# Altium footprint library SparkFun-LED.PCBLIB: 30 footprints (part 2 of 2)
Each footprint in its own frame and in the unit in brackets; x right, y up, seen from the top. Pads: shape width x height; smd on the part's side, far side on the other; paste and mask are expansions set on the pad; w line width, h text height; cw(c..) or ccw(c..) is an arc to the next point about the centre after c.
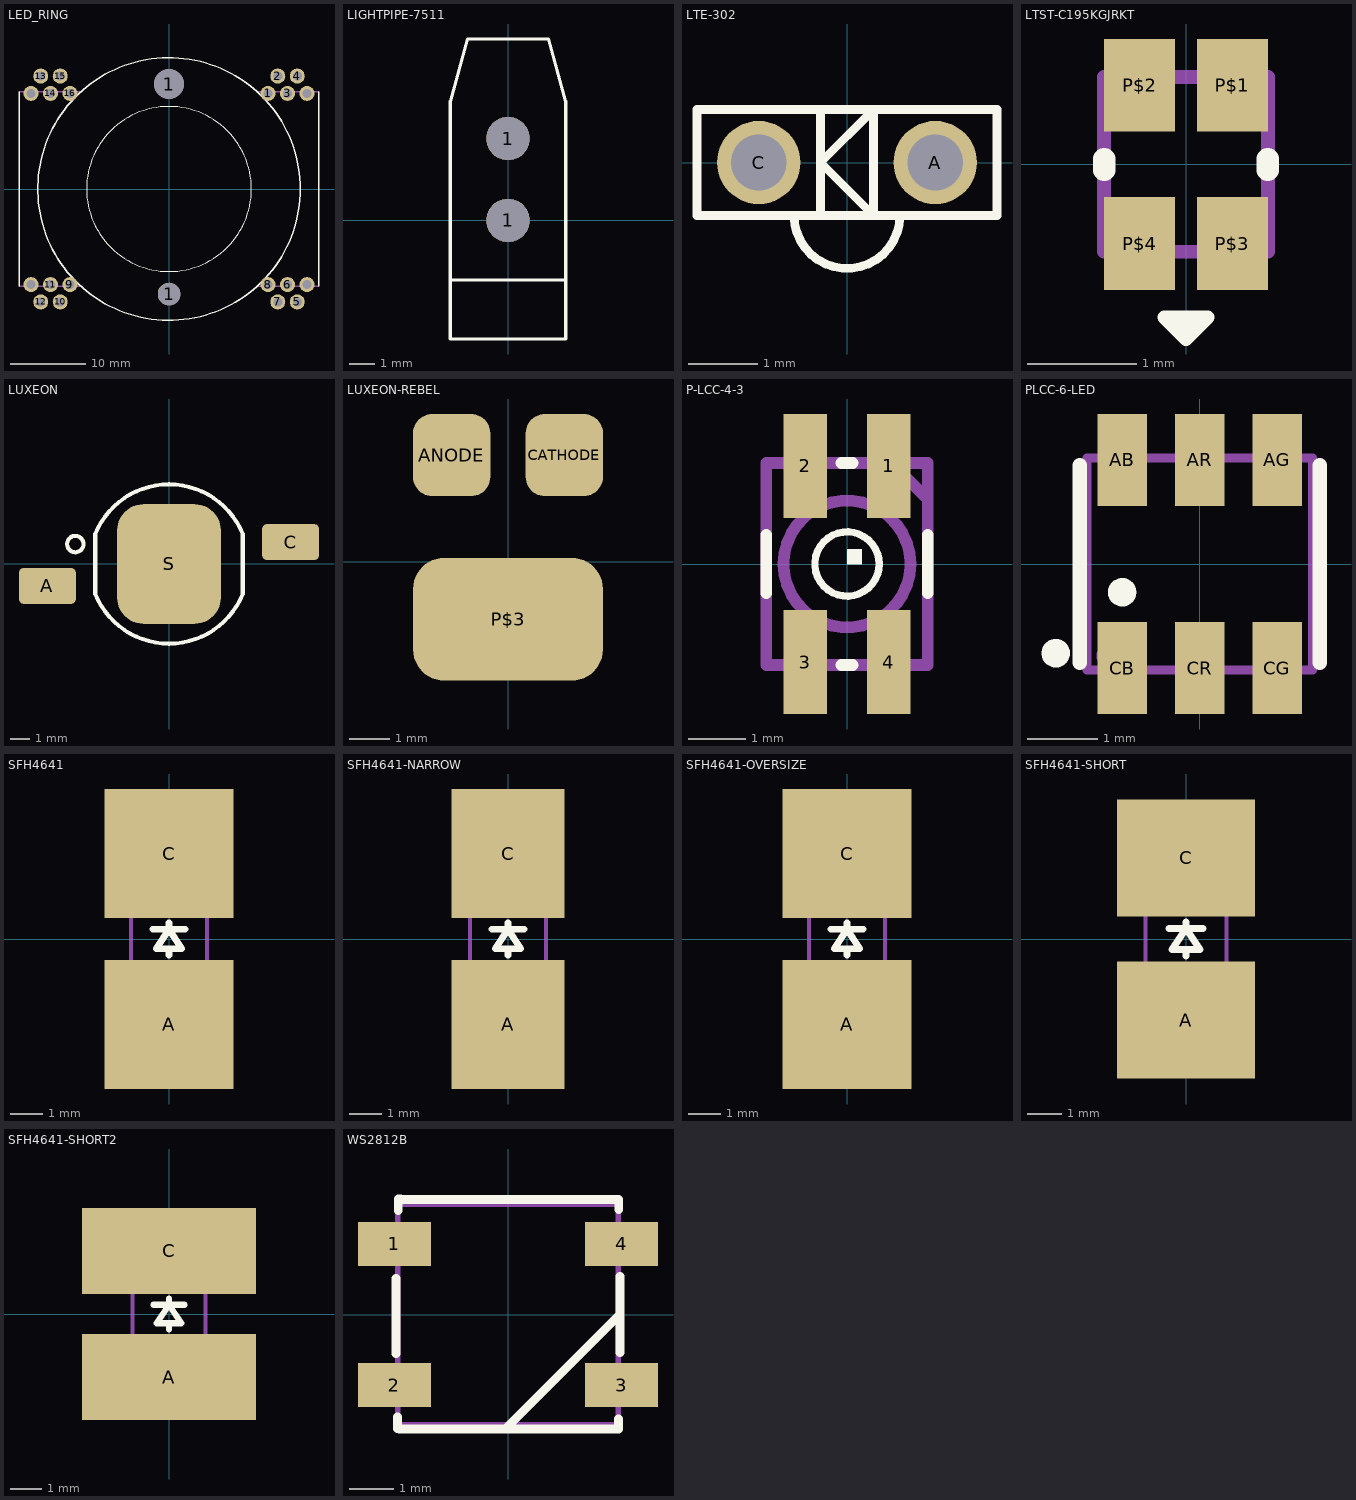
[diagram p1: the footprints below, top view; thin cyan lines are the x and y axes]

## LED_RING [mm]
pads (22):
  round 3 hole 3: 1(0,-14)
  round 4 hole 4: 1(0,14)
  round 2 hole 1.2: 1(13.2,12.75) 2(14.5,15.05) 3(15.8,12.75) 4(17.1,15.05) 5(17.1,-15.05) 6(15.8,-12.75) 7(14.5,-15.05) 8(13.2,-12.75) 9(-13.2,-12.75) 10(-14.5,-15.05) 11(-15.8,-12.75) 12(-17.1,-15.05) 13(-17.1,15.05) 14(-15.8,12.75) 15(-14.5,15.05) 16(-13.2,12.75) COM0(18.4,12.75) COM1(18.4,-12.75) COM2(-18.4,-12.75) COM3(-18.4,12.75)
Top Overlay:
  circle w0.178: c0,0 r17.5
  circle w0.127: c0,0 r11
  lines w0.178: -20,-13 -20,13 ; 20,-13 20,13
Mechanical 16:
  lines w0.178: -20,-13 -11.7,-13 ; -20,13 -11.7,13 ; 11.7,-13 20,-13 ; 11.7,13 20,13

## LIGHTPIPE-7511 [mil]
pads (2):
  round 66 hole 66: 1(0,0) 1(0,125)
Top Overlay:
  lines w5: -88,-91 -88,-181 88,-181 88,-91 ; -88,-91 -88,182 -62,277 62,277 88,182 88,-91 ; -88,-91 88,-91

## LTE-302 [mil]
pads (2):
  round 47.25 hole 31.5: A(50,0) C(-50,0)
Top Overlay:
  lines w5: -30,-30 -15,-30 ; -30,-30 -85,-30 -85,30 -15,30 ; -30,-30 ccw(c0,-30) 30,-30 ; -15,-30 15,-30 ; -15,-30 -15,0 ; -15,0 15,30 ; -15,0 15,-30 ; -15,0 -15,30 ; -15,30 15,30 ; 15,-30 30,-30 ; 15,-30 15,30 ; 15,30 85,30 85,-30 30,-30

## LTST-C195KGJRKT [mm]
pads (4):
  rect 0.65x0.85 smd: P$1(0.425,0.725) P$2(-0.425,0.725) P$3(0.425,-0.725) P$4(-0.425,-0.725)
Top Overlay:
  lines w0.127: -0.1,-1.5 -0.2,-1.4 0.2,-1.4 0.1,-1.5 ; -0.1,-1.5 0,-1.6 0.1,-1.5 ; -0.1,-1.5 0.1,-1.5
  lines w0.203: -0.75,-0.05 -0.75,0.05 ; 0.75,-0.05 0.75,0.05
Mechanical 16:
  circle w0.127: c0.4,0.5 r0.1
  lines w0.127: -0.75,-0.8 0.75,-0.8 0.75,0.8 -0.75,0.8 -0.75,-0.8

## LUXEON [mm]
pads (3):
  rrect25% 2.85x1.8 smd: A(-6.1,-1.1) C(6.1,1.1)
  rrect50% 5.2x6 smd: S(0,0)
Top Overlay:
  circle w0.203: c-4.7,1 r0.412
  lines w0.203: -3.7,-1.5 -3.7,1.5 cw(c0.008,0) 0,4 cw(c-0.008,0) 3.7,1.5 3.7,-1.5 cw(c-0.008,0) 0,-4 cw(c0.008,0) -3.7,-1.5
Mechanical 16:
  text "+" at -6.35,2.54 h1.97
  text "-" at 5.08,-2.54 h1.97

## LUXEON-REBEL [mm]
pads (3):
  rrect50% 1.91x2.03 smd: ANODE(-1.39,2.63) CATHODE(1.39,2.63)
  rrect50% 4.68x3.03 smd: P$3(0,-1.42)

## P-LCC-4-3 [mm]
pads (4):
  rect 0.75x1.8 smd: 1(0.725,1.7) 2(-0.725,1.7) 3(-0.725,-1.7) 4(0.725,-1.7)
Top Overlay:
  circle w0.127: c0,0 r0.558
  region: 0,0 0.254,0 0.254,0.254 0,0.254
  lines w0.203: -1.4,-0.508 -1.4,0.508 ; -0.102,-1.75 0.102,-1.75 ; -0.102,1.75 0.102,1.75 ; 1.4,-0.508 1.4,0.508
Mechanical 16:
  circle w0.203: c0,0 r1.1
  lines w0.203: 0.81,1.716 1.36,1.166 ; -1.4,-1.75 1.4,-1.75 1.4,1.75 -1.4,1.75 -1.4,-1.75

## PLCC-6-LED [mm]
pads (6):
  rect 0.7x1.3 smd: AB(-1.1,1.475) AG(1.1,1.475) AR(0,1.475) CB(-1.1,-1.475) CG(1.1,-1.475) CR(0,-1.475)
Top Overlay:
  circle w0.203: c-1.1,-0.4 r0.1
  circle w0.203: c-2.04,-1.264 r0.1
  lines w0.203: -1.7,-1.4 -1.7,1.4 ; 1.7,-1.4 1.7,1.4
Mechanical 16:
  circle w0.127: c-1.3,-1.3 r0.1
  lines w0.127: -1.6,-1.5 1.6,-1.5 1.6,1.5 -1.6,1.5 -1.6,-1.5

## SFH4641 [mm]
pads (2):
  rect 4x4 smd: A(0,-2.65) C(0,2.65)
Top Overlay:
  lines w0.203: -0.5,0.3 0,0.3 ; 0,-0.5 0,-0.3 ; 0,0.5 0,0.3 ; 0.5,0.3 0,0.3 ; 0,-0.3 -0.4,-0.3 0,0.3 ; 0,-0.3 0.4,-0.3 0,0.3
Top Paste:
  rectangle: -1.2,0.65 1.2,2
  region: 1.2,-0.65 -1.2,-0.65 -1.2,-2 1.2,-2
Top Solder:
  rectangle: -1.2,0.65 1.2,2
  region: 1.2,-0.65 -1.2,-0.65 -1.2,-2 1.2,-2
Mechanical 16:
  lines w0.127: -0.5,0.3 0,0.3 ; 0,-0.5 0,-0.3 ; 0,0.5 0,0.3 ; 0.5,0.3 0,0.3 ; 0,-0.3 -0.4,-0.3 0,0.3 ; 0,-0.3 0.4,-0.3 0,0.3 ; -1.175,-1.65 -1.175,1.65 1.175,1.65 1.175,-1.65 -1.175,-1.65

## SFH4641-NARROW [mm]
pads (2):
  rect 3.5x4 smd: A(0,-2.65) C(0,2.65)
Top Overlay:
  lines w0.203: -0.5,0.3 0,0.3 ; 0,-0.5 0,-0.3 ; 0,0.5 0,0.3 ; 0.5,0.3 0,0.3 ; 0,-0.3 -0.4,-0.3 0,0.3 ; 0,-0.3 0.4,-0.3 0,0.3
Top Paste:
  rectangle: -1.2,0.65 1.2,2
  region: 1.2,-0.65 -1.2,-0.65 -1.2,-2 1.2,-2
Top Solder:
  rectangle: -1.2,0.65 1.2,2
  region: 1.2,-0.65 -1.2,-0.65 -1.2,-2 1.2,-2
Mechanical 16:
  lines w0.127: -0.5,0.3 0,0.3 ; 0,-0.5 0,-0.3 ; 0,0.5 0,0.3 ; 0.5,0.3 0,0.3 ; 0,-0.3 -0.4,-0.3 0,0.3 ; 0,-0.3 0.4,-0.3 0,0.3 ; -1.175,-1.65 -1.175,1.65 1.175,1.65 1.175,-1.65 -1.175,-1.65

## SFH4641-OVERSIZE [mm]
pads (2):
  rect 4x4 smd: A(0,-2.65) C(0,2.65)
Top Overlay:
  lines w0.203: -0.5,0.3 0,0.3 ; 0,-0.5 0,-0.3 ; 0,0.5 0,0.3 ; 0.5,0.3 0,0.3 ; 0,-0.3 -0.4,-0.3 0,0.3 ; 0,-0.3 0.4,-0.3 0,0.3
Top Paste:
  rectangle: -1.4,0.65 1.4,2.2
  rectangle: -1.4,-2.2 1.4,-0.65
Top Solder:
  rectangle: -1.4,0.65 1.4,2.2
  rectangle: -1.4,-2.2 1.4,-0.65
Mechanical 16:
  lines w0.127: -0.5,0.3 0,0.3 ; 0,-0.5 0,-0.3 ; 0,0.5 0,0.3 ; 0.5,0.3 0,0.3 ; 0,-0.3 -0.4,-0.3 0,0.3 ; 0,-0.3 0.4,-0.3 0,0.3 ; -1.175,-1.65 -1.175,1.65 1.175,1.65 1.175,-1.65 -1.175,-1.65

## SFH4641-SHORT [mm]
pads (2):
  rect 4x3.4 smd: A(0,-2.35) C(0,2.35)
Top Overlay:
  lines w0.203: -0.5,0.3 0,0.3 ; 0,-0.5 0,-0.3 ; 0,0.5 0,0.3 ; 0.5,0.3 0,0.3 ; 0,-0.3 -0.4,-0.3 0,0.3 ; 0,-0.3 0.4,-0.3 0,0.3
Top Paste:
  rectangle: -1.2,0.65 1.2,2
  region: 1.2,-0.65 -1.2,-0.65 -1.2,-2 1.2,-2
Top Solder:
  rectangle: -1.2,0.65 1.2,2
  region: 1.2,-0.65 -1.2,-0.65 -1.2,-2 1.2,-2
Mechanical 16:
  lines w0.127: -0.5,0.3 0,0.3 ; 0,-0.5 0,-0.3 ; 0,0.5 0,0.3 ; 0.5,0.3 0,0.3 ; 0,-0.3 -0.4,-0.3 0,0.3 ; 0,-0.3 0.4,-0.3 0,0.3 ; -1.175,-1.65 -1.175,1.65 1.175,1.65 1.175,-1.65 -1.175,-1.65

## SFH4641-SHORT2 [mm]
pads (2):
  rect 5.62x2.77 smd: A(0,-2.035) C(0,2.035)
Top Overlay:
  lines w0.203: -0.5,0.3 0,0.3 ; 0,-0.5 0,-0.3 ; 0,0.5 0,0.3 ; 0.5,0.3 0,0.3 ; 0,-0.3 -0.4,-0.3 0,0.3 ; 0,-0.3 0.4,-0.3 0,0.3
Top Paste:
  rectangle: -1.4,0.65 1.4,2.2
  rectangle: -1.4,-2.2 1.4,-0.65
Top Solder:
  rectangle: -1.4,0.65 1.4,2.2
  rectangle: -1.4,-2.2 1.4,-0.65
Mechanical 16:
  lines w0.127: -0.5,0.3 0,0.3 ; 0,-0.5 0,-0.3 ; 0,0.5 0,0.3 ; 0.5,0.3 0,0.3 ; 0,-0.3 -0.4,-0.3 0,0.3 ; 0,-0.3 0.4,-0.3 0,0.3 ; -1.175,-1.65 -1.175,1.65 1.175,1.65 1.175,-1.65 -1.175,-1.65

## WS2812B [mm]
pads (4):
  rect 1.651x1 smd: 1(-2.577,1.6) 2(-2.577,-1.6) 3(2.577,-1.6) 4(2.577,1.6)
Top Overlay:
  lines w0.203: -2.54,-0.889 -2.54,0.813 ; -2.51,-2.319 -2.51,-2.591 -2.459,-2.591 -2.459,-2.593 2.51,-2.593 2.51,-2.367 ; -2.489,2.362 -2.489,2.616 -2.438,2.616 -2.438,2.611 2.512,2.611 2.512,2.38 ; 0,-2.54 2.54,0 ; 2.54,-0.864 2.54,0 ; 2.54,0.864 2.54,0
Mechanical 16:
  lines w0.127: -2.5,-2.5 -2.5,2.5 2.5,2.5 2.5,-2.5 -2.5,-2.5